# Altium footprint library USB_HDMI_DVI.PcbLib: 1 footprints
Each footprint in its own frame and in the unit in brackets; x right, y up, seen from the top. Pads: shape width x height; smd on the part's side, far side on the other; paste and mask are expansions set on the pad; w line width, h text height; cw(c..) or ccw(c..) is an arc to the next point about the centre after c.
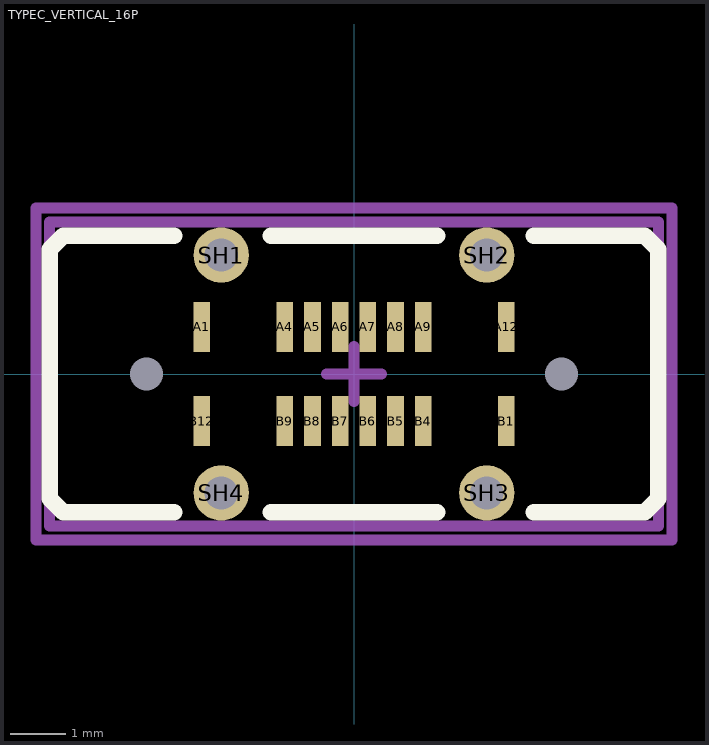
[diagram p0: the footprint, top view; thin cyan lines are the x and y axes]

## TYPEC_VERTICAL_16P [mm]
pads (22):
  round 0 hole 0.6 unplated: 0(-3.75,0) 0(3.75,0)
  rect 0.3x0.9 smd: A1(-2.75,0.85) A4(-1.25,0.85) A5(-0.75,0.85) A6(-0.25,0.85) A7(0.25,0.85) A8(0.75,0.85) A9(1.25,0.85) A12(2.75,0.85) B1(2.75,-0.85) B4(1.25,-0.85) B5(0.75,-0.85) B6(0.25,-0.85) B7(-0.25,-0.85) B8(-0.75,-0.85) B9(-1.25,-0.85) B12(-2.75,-0.85)
  round 1 hole 0.6: SH1(-2.4,2.15) SH2(2.4,2.15) SH3(2.4,-2.15) SH4(-2.4,-2.15)
Top Overlay:
  lines w0.3: -3.25,-2.5 -5.25,-2.5 -5.5,-2.25 -5.5,2.25 -5.25,2.5 -3.25,2.5 ; -1.5,-2.5 1.5,-2.5 ; -1.5,2.5 1.5,2.5 ; 3.25,-2.5 5.25,-2.5 5.5,-2.25 5.5,2.25 5.25,2.5 3.25,2.5
Mechanical 13:
  lines w0.2: -5.5,-2.75 5.5,-2.75 5.5,2.75 -5.5,2.75 -5.5,-2.75
  text ".Designator" at -1.75,-0.265 h1.25
Mechanical 15:
  lines w0.2: -0.5,0 0.5,0 ; 0,-0.5 0,0.5 ; -5.75,-3 5.75,-3 5.75,3 -5.75,3 -5.75,-3
3D body "Download_STEP_632722110112 (rev1).stp": height 7.97, standoff -1.3, extent -5.15,-2.3 5.15,2.3